# Altium footprint library ACS770.PcbLib: 1 footprints
Each footprint in its own frame and in the unit in brackets; x right, y up, seen from the top. Pads: shape width x height; smd on the part's side, far side on the other; paste and mask are expansions set on the pad; w line width, h text height; cw(c..) or ccw(c..) is an arc to the next point about the centre after c.
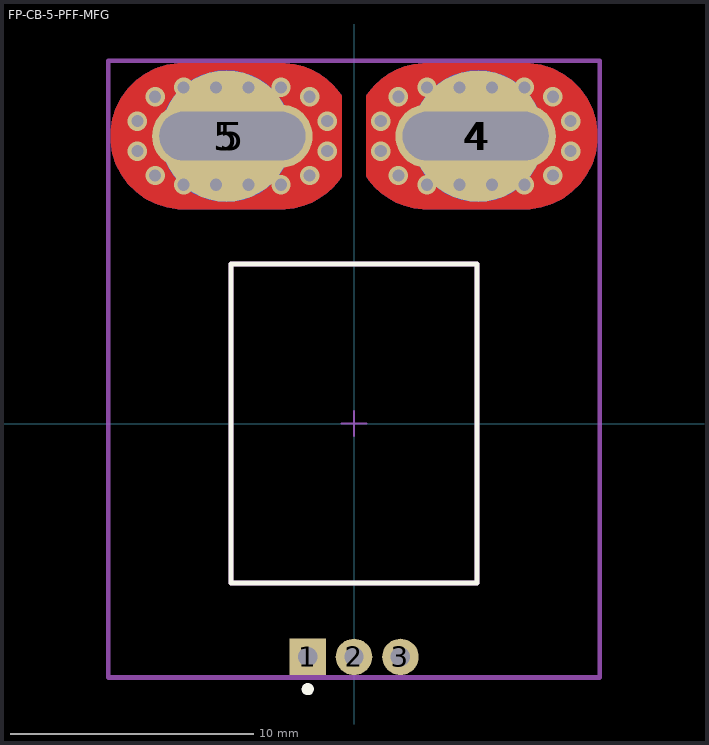
[diagram p0: the footprint, top view; thin cyan lines are the x and y axes]

## FP-CB-5-PFF-MFG [mm]
pads (9):
  rect 1.5x1.5 hole 0.8 paste-1000 mask+0: 1(-1.91,-9.59)
  round 1.5 hole 0.8 paste-1000 mask+0: 2(0,-9.59) 3(1.91,-9.59)
  rrect100% 6.6x2.6 hole 2 slot 6 at 0 deg paste-1000 mask+0: 4(5,11.809) 5(-5,11.809)
  round 5.4 smd paste-1000 mask+0: 4(5.099,11.809) 5(-5.25,11.809)
  round 5.4 smd far side paste-1000 mask+0: 4(5.099,11.809) 5(-5.25,11.809)
via -7,13.809 diameter 0.8 hole 0.5
via -5.667,13.809 diameter 0.8 hole 0.5
via -4.333,13.809 diameter 0.8 hole 0.5
via -3,13.809 diameter 0.8 hole 0.5
via -7,9.81 diameter 0.8 hole 0.5
via -5.667,9.81 diameter 0.8 hole 0.5
via -4.333,9.81 diameter 0.8 hole 0.5
via -3,9.81 diameter 0.8 hole 0.5
via 3,13.809 diameter 0.8 hole 0.5
via 4.333,13.809 diameter 0.8 hole 0.5
via 5.667,13.809 diameter 0.8 hole 0.5
via 7,13.809 diameter 0.8 hole 0.5
via 3,9.81 diameter 0.8 hole 0.5
via 4.333,9.81 diameter 0.8 hole 0.5
via 5.667,9.81 diameter 0.8 hole 0.5
via 7,9.81 diameter 0.8 hole 0.5
via -8.176,13.427 diameter 0.8 hole 0.5
via 8.176,13.427 diameter 0.8 hole 0.5
via -8.902,12.428 diameter 0.8 hole 0.5
via 8.902,12.428 diameter 0.8 hole 0.5
via -8.902,11.191 diameter 0.8 hole 0.5
via 8.902,11.191 diameter 0.8 hole 0.5
via -8.176,10.192 diameter 0.8 hole 0.5
via 8.176,10.192 diameter 0.8 hole 0.5
via -1.824,13.427 diameter 0.8 hole 0.5
via 1.824,13.427 diameter 0.8 hole 0.5
via -1.098,12.428 diameter 0.8 hole 0.5
via 1.098,12.428 diameter 0.8 hole 0.5
via -1.098,11.191 diameter 0.8 hole 0.5
via 1.098,11.191 diameter 0.8 hole 0.5
via -1.824,10.192 diameter 0.8 hole 0.5
via 1.824,10.192 diameter 0.8 hole 0.5
Top Layer:
  region: -0.5,10.151 -0.602,9.997 -0.843,9.716 -1.116,9.467 -1.418,9.254 -1.744,9.079 -2.089,8.945 -2.448,8.855 -2.815,8.81 -3,8.81 -7,8.809 -7.236,8.809 -7.703,8.883 -8.152,9.029 -8.572,9.244 -8.954,9.521 -9.288,9.855 -9.566,10.237 -9.78,10.658 -9.926,11.107 -10,11.573 -10,12.046 -9.926,12.512 -9.78,12.961 -9.566,13.382 -9.288,13.764 -8.954,14.098 -8.572,14.375 -8.152,14.59 -7.703,14.736 -7.236,14.809 -7,14.809 -7,14.81 -3,14.809 -2.815,14.809 -2.448,14.764 -2.089,14.674 -1.744,14.54 -1.418,14.365 -1.116,14.152 -0.843,13.903 -0.602,13.622 -0.5,13.468
  region: 0.5,13.468 0.602,13.622 0.843,13.903 1.116,14.152 1.418,14.365 1.744,14.54 2.089,14.674 2.448,14.764 2.815,14.809 3,14.809 7,14.809 7.236,14.809 7.703,14.736 8.152,14.59 8.572,14.375 8.954,14.098 9.288,13.764 9.566,13.382 9.78,12.961 9.926,12.512 10,12.046 10,11.573 9.926,11.107 9.78,10.658 9.566,10.237 9.288,9.855 8.954,9.521 8.572,9.244 8.152,9.029 7.703,8.883 7.236,8.809 7,8.809 3,8.809 2.815,8.809 2.448,8.855 2.089,8.945 1.744,9.079 1.418,9.254 1.116,9.467 0.843,9.716 0.602,9.997 0.5,10.151
Bottom Layer:
  region: -0.5,10.151 -0.602,9.997 -0.843,9.716 -1.116,9.467 -1.418,9.254 -1.744,9.079 -2.089,8.945 -2.448,8.855 -2.815,8.81 -3,8.81 -7,8.809 -7.236,8.809 -7.703,8.883 -8.152,9.029 -8.572,9.244 -8.954,9.521 -9.288,9.855 -9.566,10.237 -9.78,10.658 -9.926,11.107 -10,11.573 -10,12.046 -9.926,12.512 -9.78,12.961 -9.566,13.382 -9.288,13.764 -8.954,14.098 -8.572,14.375 -8.152,14.59 -7.703,14.736 -7.236,14.809 -7,14.809 -7,14.81 -3,14.809 -2.815,14.809 -2.448,14.764 -2.089,14.674 -1.744,14.54 -1.418,14.365 -1.116,14.152 -0.843,13.903 -0.602,13.622 -0.5,13.468
  region: 0.5,13.468 0.602,13.622 0.843,13.903 1.116,14.152 1.418,14.365 1.744,14.54 2.089,14.674 2.448,14.764 2.815,14.809 3,14.809 7,14.809 7.236,14.809 7.703,14.736 8.152,14.59 8.572,14.375 8.954,14.098 9.288,13.764 9.566,13.382 9.78,12.961 9.926,12.512 10,12.046 10,11.573 9.926,11.107 9.78,10.658 9.566,10.237 9.288,9.855 8.954,9.521 8.572,9.244 8.152,9.029 7.703,8.883 7.236,8.809 7,8.809 3,8.809 2.815,8.809 2.448,8.855 2.089,8.945 1.744,9.079 1.418,9.254 1.116,9.467 0.843,9.716 0.602,9.997 0.5,10.151
Top Overlay:
  circle w0.25: c-1.9,-10.916 r0.125
  lines w0.2: -5.05,-6.55 5.05,-6.55 5.05,6.55 -5.05,6.55 -5.05,-6.55
Mechanical 5:
  lines w0.2: -10.099,-10.44 10.099,-10.44 10.099,14.91 -10.099,14.91 -10.099,-10.44
  text ".Designator" at 0,2.422 h1
Mechanical 13:
  lines w0.2: -5.05,-6.55 5.05,-6.55 5.05,6.55 -5.05,6.55 -5.05,-6.55
Mechanical 15:
  lines w0.2: -10.099,-10.44 10.099,-10.44 10.099,14.91 -10.099,14.91 -10.099,-10.44
Mechanical 16:
  lines w0.1: -0.5,0 0.5,0 ; 0,-0.5 0,0.5
3D body "IC_Allegro_MicroSystems_LLC_ACS756KCB-050B-PFF-T_eec.STEP": height 0.25, standoff 0, extent -10.099,-10.44 10.099,14.91